# EAGLE library part DG307BDJ-E3 (library Vishay_By_element14_Batch_1)
CMOS Analog Switch
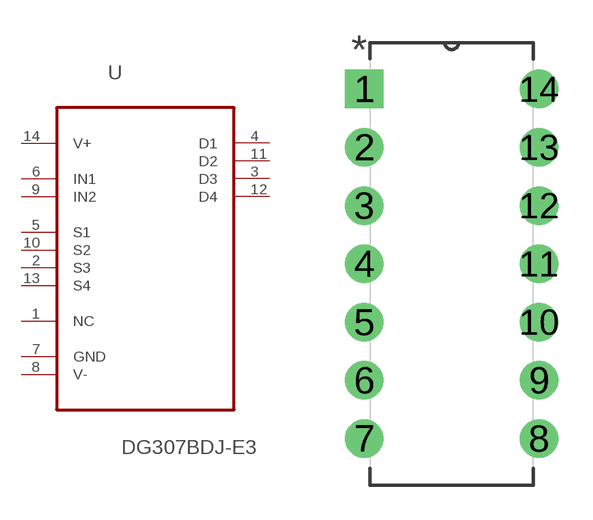
[diagram p15: symbol with the pads of DIP254P762X508-14; footprint DIP254P762X508-14]

Designator prefix U

## DG307BDJ-E3 (MPN: DG307BDJ-E3; OC_FARNELL: 1651899; OC_NEWARK: 49K9472; PACKAGE: DIP-14; SUPPLIER: VISHAY SILICONIX)  [DIP254P762X508-14]
1  NC  nc
2  S3  in
3  D3  out
4  D1  out
5  S1  in
6  IN1  in
7  GND  pas
8  V-  pwr
9  IN2  in
10  S2  in
11  D2  out
12  D4  out
13  S4  in
14  V+  pwr

## Footprint DIP254P762X508-14 (pad centres in mm)
drill 1.118 square: 1 -7.62,15.24
drill 1.118: 2 -7.62,12.7; 3 -7.62,10.16; 4 -7.62,7.62; 5 -7.62,5.08; 6 -7.62,2.54; 7 -7.62,0; 8 0,0; 9 0,2.54; 10 0,5.08; 11 0,7.62; 12 0,10.16; 13 0,12.7; 14 0,15.24